# Altium footprint library SMA.PcbLib: 1 footprints
Each footprint in its own frame and in the unit in brackets; x right, y up, seen from the top. Pads: shape width x height; smd on the part's side, far side on the other; paste and mask are expansions set on the pad; w line width, h text height; cw(c..) or ccw(c..) is an arc to the next point about the centre after c.
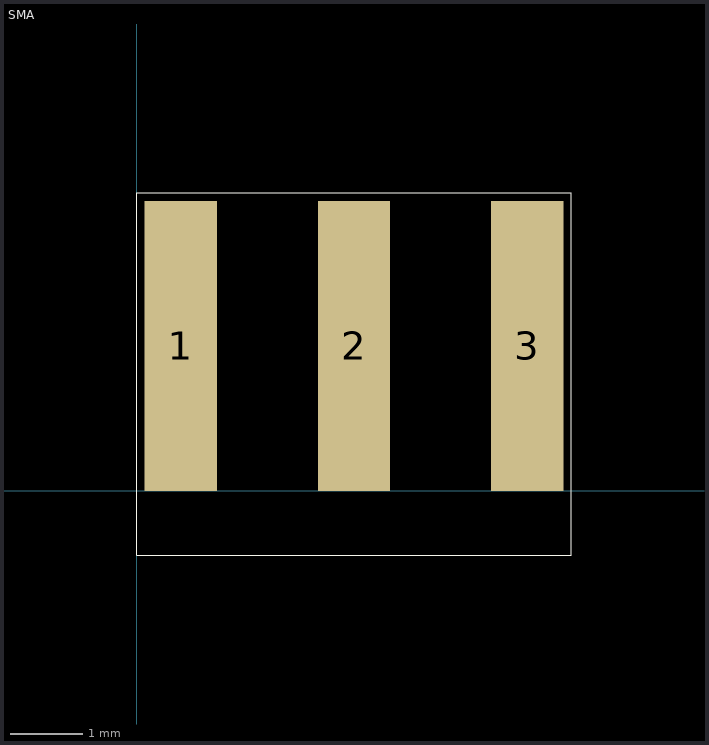
[diagram p0: the footprint, top view; thin cyan lines are the x and y axes]

## SMA [mm]
pads (3):
  rect 1x4 all layers, no hole: 1(0.61,2) 2(3,2) 3(5.39,2)
Top Overlay:
  lines w0.01: 6,4.11 6,-0.889 0,-0.889 0,4.111 6,4.111